# Altium schematic symbol library SHT41A-AW1B-R2.SchLib: 1 symbol
Pins are listed as number, name and electrical type; pins without a type are passive.

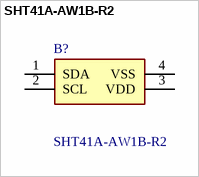
[diagram p0: symbol SHT41A-AW1B-R2]

## SHT41A-AW1B-R2
designator B?
Humidity, Temperature 0 ~ 100% RH I2C +/-2% RH 4 s Surface Mount; Manufacturer_Name: Sensirion; Geometry.Height: 0.59mm; Manufacturer_Part_Number: SHT41A-AW1B-R2; Mouser Part Number: 403-SHT41A-AW1B-R2; Mouser Price/Stock: https://www.mouser.co.uk/ProductDetail/Sensirion/SHT41A-AW1B-R2?qs=ulEaXIWI0c8gYiWa38rOTg%3D%3D; Arrow Part Number: *; Arrow Price/Stock: *; Datasheet Link: https://sensirion.com/media/documents/C43ACD8C/6685097A/HT_DS_Datasheet_SHT4xA_1.pdf
footprint SHT41AAW1BR2
pins: 1 SDA, 2 SCL, 3 VDD, 4 VSS